# EAGLE library part PEC12-4XXXF-SXXXX (library buttons)
Rotary Encoder
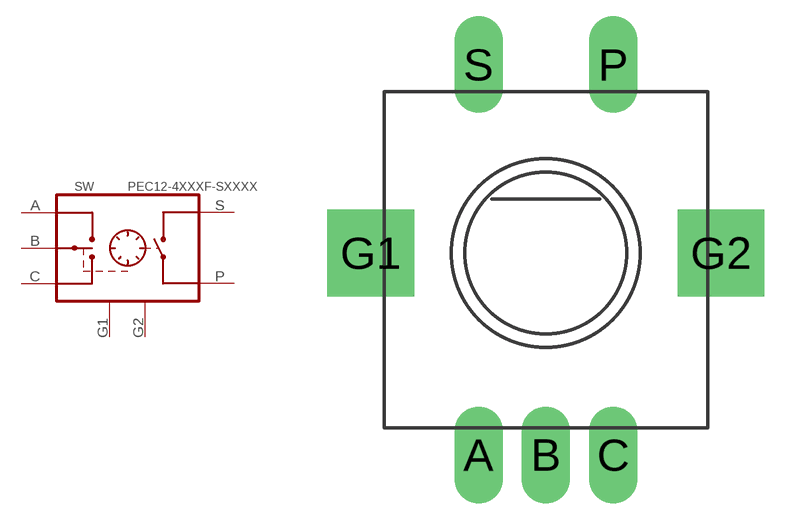
[diagram p0: symbol with the pads of PEC12-4XXX; footprint PEC12-4XXX]

Designator prefix SW

## PEC12-4XXXF-SXXXX  [PEC12-4XXX]
A  A  pas
B  B  pas
C  C  pas
G1  G1  pas
G2  G2  pas
P  P  pas
S  S  pas

## Footprint PEC12-4XXX (pad centres in mm)
http://www.sure-electronics.net/DC,IC%20chips/CS-CO043-5.jpg
drill 1.2 long: A -2.5,-7.5; B 0,-7.5; C 2.5,-7.5; P 2.5,7; S -2.5,7
drill 2.2 square: G1 -6.5,0; G2 6.5,0